# EAGLE library part DS3232 (library sjunglib)
DS3232 I2C real-time clock Manufacturer: Maxim Vcc/Vbat: 2.3-5.5V 2ppm over temperature SRAM: 236B (battery-backed) I2C address: 1101000 Note: SCL pin is on both 18 and 20. If only one pin is driven, the other must be unconnected. Note: Alll NC pins must be connected to GND.
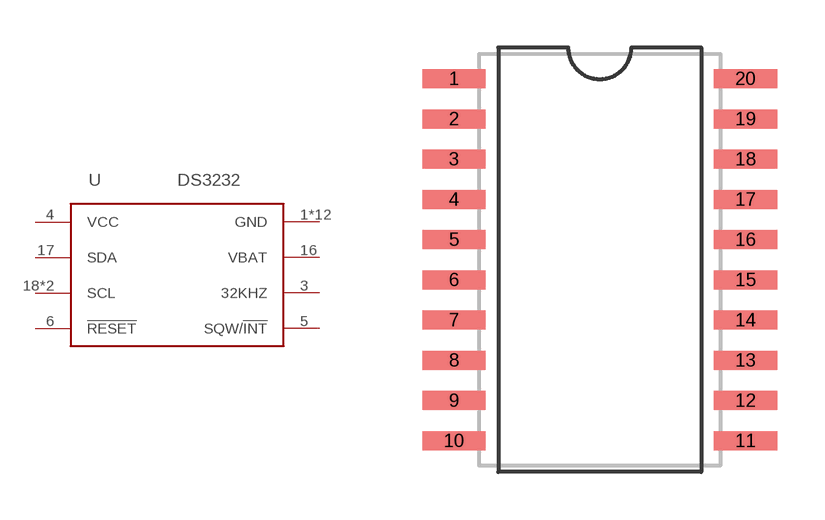
[diagram p2: symbol with the pads of SOIC-20; footprint SOIC-20]

Designator prefix U

## DS3232S#  [SOIC-20]
1  GND  pwr
2  GND  pwr
3  32KHZ  out
4  VCC  pwr
5  SQW/!INT  out
6  !RESET
7  GND  pwr
8  GND  pwr
9  GND  pwr
10  GND  pwr
11  GND  pwr
12  GND  pwr
13  GND  pwr
14  GND  pwr
15  GND  pwr
16  VBAT  pwr
17  SDA
18  SCL
19  GND  pwr
20  SCL

## Footprint SOIC-20 (pad centres in mm)
SOIC-20 Body width: 0.3" (300mil / 7.62mm) Pitch: 0.05" (50mil / 1.27mm) Pads: 0.6 x 2mm Center-center spacing: 9.2mm Documented dims: 13 x 7.6mm Documented leads: 0.4 x 1.4mm JEDEC: MS-013AC EIA: none
smd 2 x 0.6: 1 -4.6,5.715; 2 -4.6,4.445; 3 -4.6,3.175; 4 -4.6,1.905; 5 -4.6,0.635; 6 -4.6,-0.635; 7 -4.6,-1.905; 8 -4.6,-3.175; 9 -4.6,-4.445; 10 -4.6,-5.715; 11 4.6,-5.715; 12 4.6,-4.445; 13 4.6,-3.175; 14 4.6,-1.905; 15 4.6,-0.635; 16 4.6,0.635; 17 4.6,1.905; 18 4.6,3.175; 19 4.6,4.445; 20 4.6,5.715